# Altium footprint library CAP_TAN3126.PcbLib: 1 footprints
Each footprint in its own frame and in the unit in brackets; x right, y up, seen from the top. Pads: shape width x height; smd on the part's side, far side on the other; paste and mask are expansions set on the pad; w line width, h text height; cw(c..) or ccw(c..) is an arc to the next point about the centre after c.
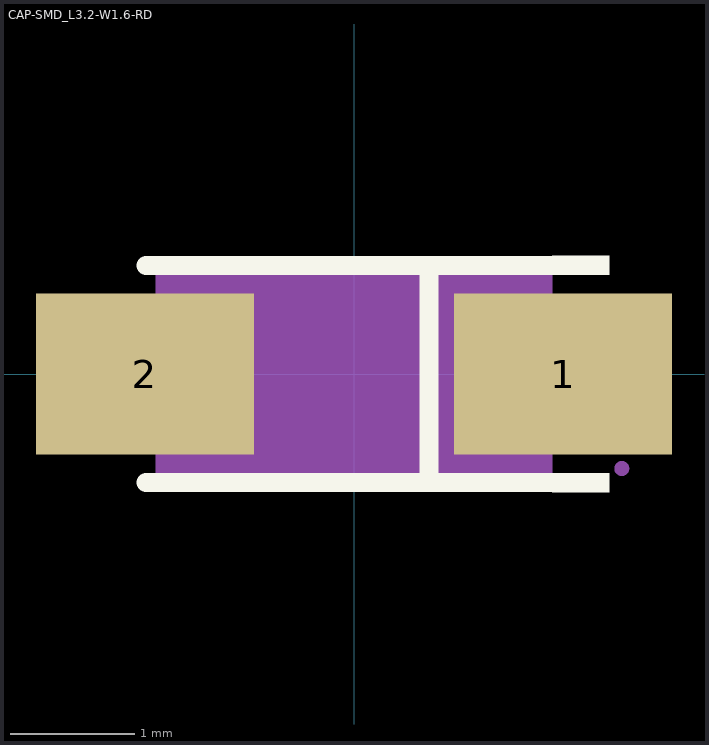
[diagram p0: the footprint, top view; thin cyan lines are the x and y axes]

## CAP-SMD_L3.2-W1.6-RD [mm]
pads (2):
  rect 1.758x1.296 smd: 1(1.686,0) 2(-1.686,0)
Top Overlay:
  region: 1.6,-0.952 1.6,-0.8 2.057,-0.8 2.057,-0.952
  region: 1.6,0.952 1.6,0.8 2.057,0.8 2.057,0.952
  lines w0.152: -1.676,-0.876 1.676,-0.876 ; -1.676,0.876 1.676,0.876 ; 0.604,-0.876 0.604,0.876
Mechanical 4:
  region: -1.6,-0.8 -1.6,0.8 1.6,0.8 1.6,-0.8
Mechanical 5:
  region: 1.83,-0.6 1.83,0.6 0.98,0.6 0.98,-0.6
  region: -1.83,-0.6 -1.83,0.6 -0.98,0.6 -0.98,-0.6
Mechanical 6:
  circle w0.06: c2.159,-0.762 r0.03
Mechanical 15:
  region: 1.6,0.8 1.6,0.4 1.36,0.4 1.36,0.8
  region: 1.6,-0.8 1.6,-0.4 1.36,-0.4 1.36,-0.8
  region: 1.3,-0.4 1.3,0.4 1.18,0.4 1.18,-0.4
  region: 1.48,-0.06 1.48,0.06 1,0.06 1,-0.06
  region: -1.48,-0.06 -1.48,0.06 -1,0.06 -1,-0.06